# Altium schematic symbol library TRX-101R18.SCHLIB: 25 symbols
Pins are listed as number, name and electrical type; pins without a type are passive.

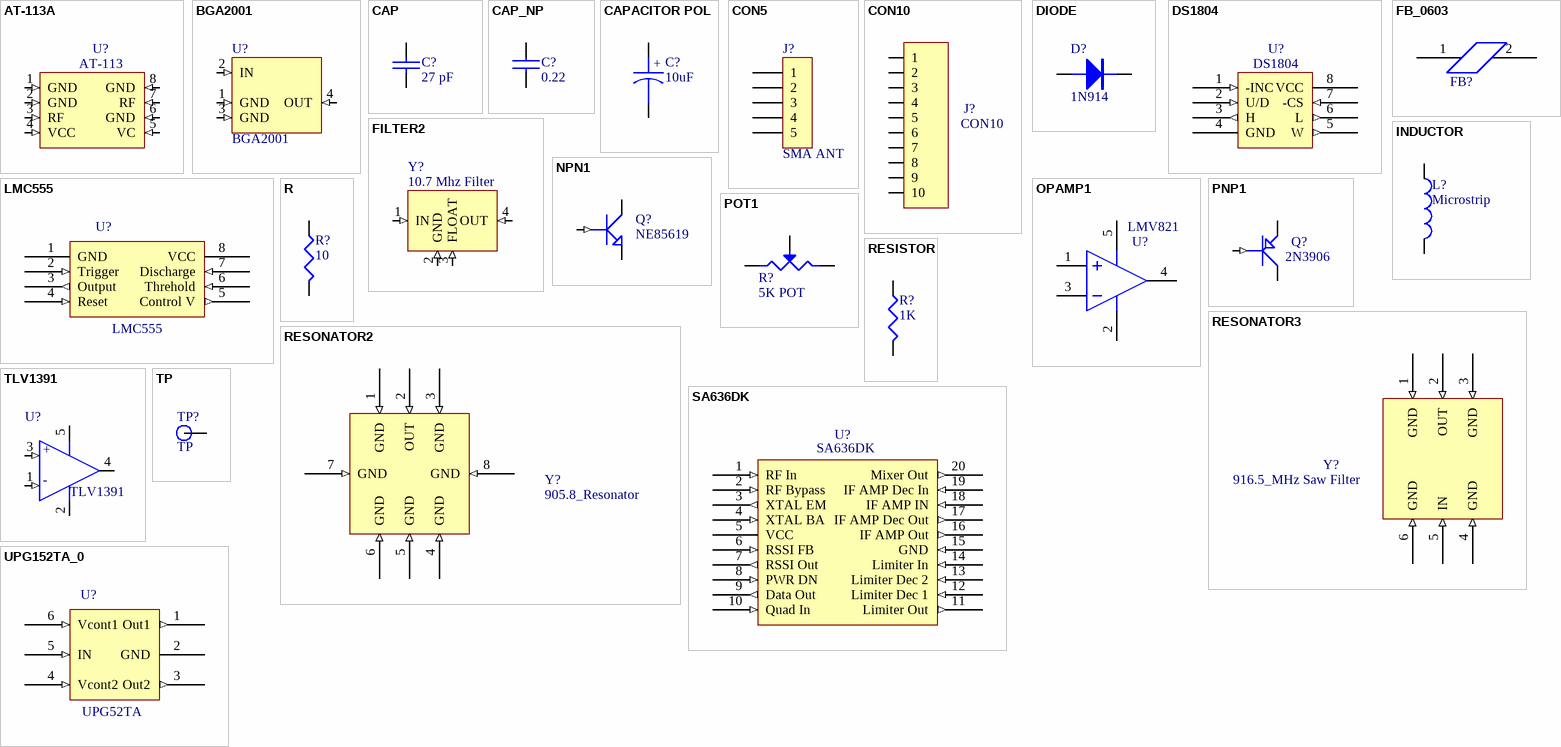
[diagram p0: symbols AT-113A to UPG152TA_0]

## AT-113A
designator U?, comment AT-113
footprint SO8
pins: 1 GND (in), 2 GND (in), 3 RF (in), 4 VCC (in), 5 VC (in), 6 GND (in), 7 RF (in), 8 GND (in)

## BGA2001
designator U?
footprint SOT343
pins: 1 GND (in), 2 IN (in), 3 GND (in), 4 OUT (in)

## CAP
designator C?, comment 27 pF
Capacitor
footprint 0603
pins: 1, 2

## CAP_NP
designator C?, comment 0.22
Text Field1: 20; Text Field2: 10
footprint 0603
pins: 1, 2

## CAPACITOR POL
designator C?, comment 10uF
Capacitor
footprint CAP A CASE
pins: 1, 2
text: +

## CON5
designator J?, comment SMA ANT
Connector
footprint 50 OHM ANT
pins: 1, 2, 3, 4, 5

## CON10
designator J?
Text Field1: 30; Text Field2: 110
footprint 1X10 HEADER
pins: 1, 2, 3, 4, 5, 6, 7, 8, 9, 10

## DIODE
designator D?, comment 1N914
Diode
footprint SOT23 DIODE
pins: A, K

## DS1804
designator U?
Text Field1: 50; Text Field2: 50
footprint SO8 SMALL
pins: 1 -INC (in), 2 U/D (in), 3 H (out), 4 GND (power), 5 W (out), 6 L (out), 7 -CS (in), 8 VCC (power)

## FB_0603
designator FB?, comment FB  (value not drawn)
Part Field 1: Part Number EXC-ML16A270U; Part Field 2: Vendor Panasonic - ECG; Part Field 3: Description BEAD CORE 27 OHM 4A 0603 SMD
footprint L-603
footprint 0603
pins: 1 2, 2 1

## FILTER2
designator Y?, comment 10.7 Mhz Filter
footprint FILTER2
pins: 1 IN (in), 2 GND (in), 3 FLOAT (in), 4 OUT (in)

## INDUCTOR
designator L?, comment Microstrip
Text Field1: 20; Text Field2: 40
footprint MICROSTRIP
pins: 1, 2

## LMC555
designator U?
Text Field1: 90; Text Field2: 50
footprint SO8 SMALL
pins: 1 GND (power), 2 Trigger (in), 3 Output (out), 4 Reset (in), 5 Control V (out), 6 Threhold (in), 7 Discharge (in), 8 VCC (power)

## NPN1
designator Q?, comment NE85619
NPN Transistor
footprint 3 PIN ULTRA SUPER MINI MOLD
pins: B (in), C, E

## OPAMP1
designator U?, comment LMV821
footprint SOT25
pins: 1, 2, 3, 4, 5

## PNP1
designator Q?, comment 2N3906
PNP Transistor
footprint SOT23 TRANS
pins: B (in), C, E

## POT1
designator R?, comment 5K POT
Potentiometer
footprint POT PANA EVN5
pins: 1, 2, 3

## R
designator R?, comment 10
Text Field1: 20; Text Field2: 30
footprint 0603
pins: 1, 2

## RESISTOR
designator R?, comment 1K
Text Field1: 20; Text Field2: 30
footprint 0603
pins: 1, 2

## RESONATOR2
designator Y?, comment 905.8_Resonator
footprint RESONATOR
pins: 1 GND (in), 2 OUT (in), 3 GND (in), 4 GND (in), 5 GND (in), 6 GND (in), 7 GND (in), 8 GND (in)

## RESONATOR3
designator Y?, comment 916.5_MHz Saw Filter
pins: 1 GND (in), 2 OUT (in), 3 GND (in), 4 GND (in), 5 IN (in), 6 GND (in)

## SA636DK
designator U?
Text Field1: 120; Text Field2: 110
footprint SSOP20
pins: 1 RF In (in), 2 RF Bypass (in), 3 XTAL EM (out), 4 XTAL BA (in), 5 VCC (power), 6 RSSI FB (in), 7 RSSI Out (out), 8 PWR DN (in), 9 Data Out (out), 10 Quad In (in), 11 Limiter Out (out), 12 Limiter Dec 1 (in), 13 Limiter Dec 2 (in), 14 Limiter In (in), 15 GND (in), 16 IF AMP Out (out), 17 IF AMP Dec Out (out), 18 IF AMP IN (in), 19 IF AMP Dec In (in), 20 Mixer Out (out)

## TLV1391
designator U?
Text Field1: 40; Text Field2: 40
footprint SOT25
pins: 1 - (in), 2 VSS (power), 3 + (in), 4 OUT (oc), 5 VDD (power)

## TP
designator TP?
footprint TESTPOINT
pins: 1 TP

## UPG152TA_0
designator U?, comment UPG52TA
Text Field1: 60; Text Field2: 60
footprint TO6
pins: 1 Out1 (out), 2 GND (power), 3 Out2 (out), 4 Vcont2 (in), 5 IN (in), 6 Vcont1 (in)